# EAGLE library part UJ31-CH-314-SMT-TR (library Artemis)
USB 3.1, 4 Point Back Cover, USB Type C Receptacle Check prices <https://pricing.snapeda.com/parts/UJ31-CH-314-SMT-TR/CUI%20Devices/view-part?ref=eda>
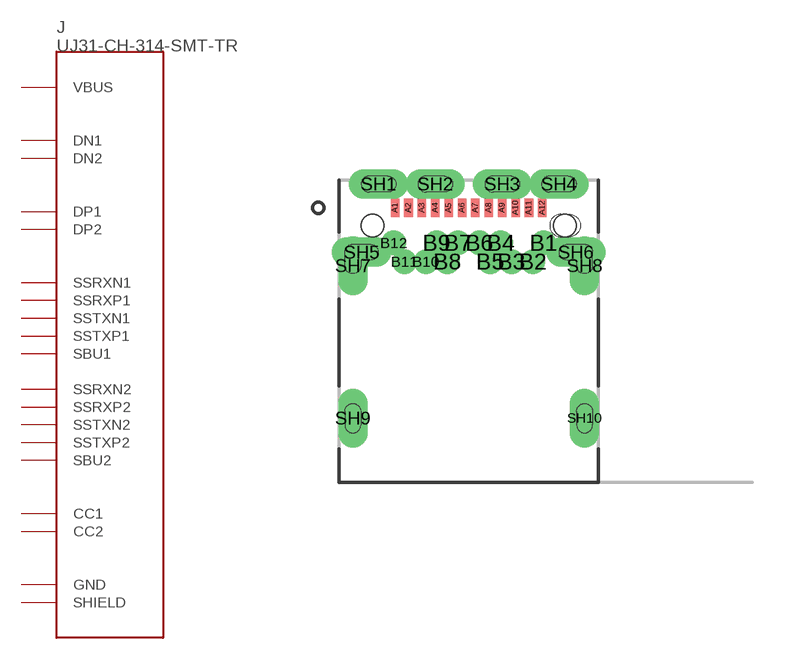
[diagram p14: symbol with the pads of CUI_UJ31-CH-314-SMT-TR; footprint CUI_UJ31-CH-314-SMT-TR]

Designator prefix J

## UJ31-CH-314-SMT-TR (AVAILABILITY: In Stock; CUI_PURCHASE_URL: https://www.cuidevices.com/product/interconnect/connectors/usb-connectors/uj31-ch-smt-series?utm_source=snapeda.com&utm_medium=referral&utm_campaign=snapedaBOM; DESCRIPTION: Type C, USB 3.1 Gen 2, 5 A, Right Angle, Surface Mount (SMT), USB Receptacle; MF: CUI Devices; MP: UJ31-CH-314-SMT-TR; PACKAGE: None; PRICE: None)  [CUI_UJ31-CH-314-SMT-TR]
A1  GND  pwr
A2  SSTXP1
A3  SSTXN1
A4  VBUS  pwr
A5  CC1
A6  DP1
A7  DN1
A8  SBU1
A9  VBUS  pwr
A10  SSRXN2
A11  SSRXP2
A12  GND  pwr
B1  GND  pwr
B2  SSTXP2
B3  SSTXN2
B4  VBUS  pwr
B5  CC2
B6  DP2
B7  DN2
B8  SBU2
B9  VBUS  pwr
B10  SSRXN1
B11  SSRXP1
B12  GND  pwr
SH1  SHIELD  pwr
SH2  SHIELD  pwr
SH3  SHIELD  pwr
SH4  SHIELD  pwr
SH5  SHIELD  pwr
SH6  SHIELD  pwr
SH7  SHIELD  pwr
SH8  SHIELD  pwr
SH9  SHIELD  pwr
SH10  SHIELD  pwr

## Footprint CUI_UJ31-CH-314-SMT-TR (pad centres in mm)
smd 0.32 x 0.7: A1 0,0; A2 0.5,0; A3 1,0; A4 1.5,0; A5 2,0; A6 2.5,0; A7 3,0; A8 3.5,0; A9 4,0; A10 4.5,0; A11 5,0; A12 5.5,0
drill 0.4 pad 0.6: B1 5.55,-1.31; B2 5.15,-2.01; B3 4.35,-2.01; B4 3.95,-1.31; B5 3.55,-2.01; B6 3.15,-1.31; B7 2.35,-1.31; B8 1.95,-2.01; B9 1.55,-1.31; B10 1.15,-2.01; B11 0.35,-2.01; B12 -0.05,-1.31
drill 0.6 pad 0.7 long: SH1 -0.62,0.89; SH2 1.5,0.89; SH3 4,0.89; SH4 6.12,0.89
drill 0.6 pad 0.8 long: SH5 -1.255,-1.66; SH6 6.755,-1.66
drill 0.6 pad 0.9 long: SH7 -1.58,-2.16; SH8 7.08,-2.16; SH9 -1.58,-7.86; SH10 7.08,-7.86
hole 0.85 at -0.85,-0.66
hole 0.85 at 6.35,-0.66